# Altium footprint library PcbLib1.PcbLib: 5 footprints
Each footprint in its own frame and in the unit in brackets; x right, y up, seen from the top. Pads: shape width x height; smd on the part's side, far side on the other; paste and mask are expansions set on the pad; w line width, h text height; cw(c..) or ccw(c..) is an arc to the next point about the centre after c.
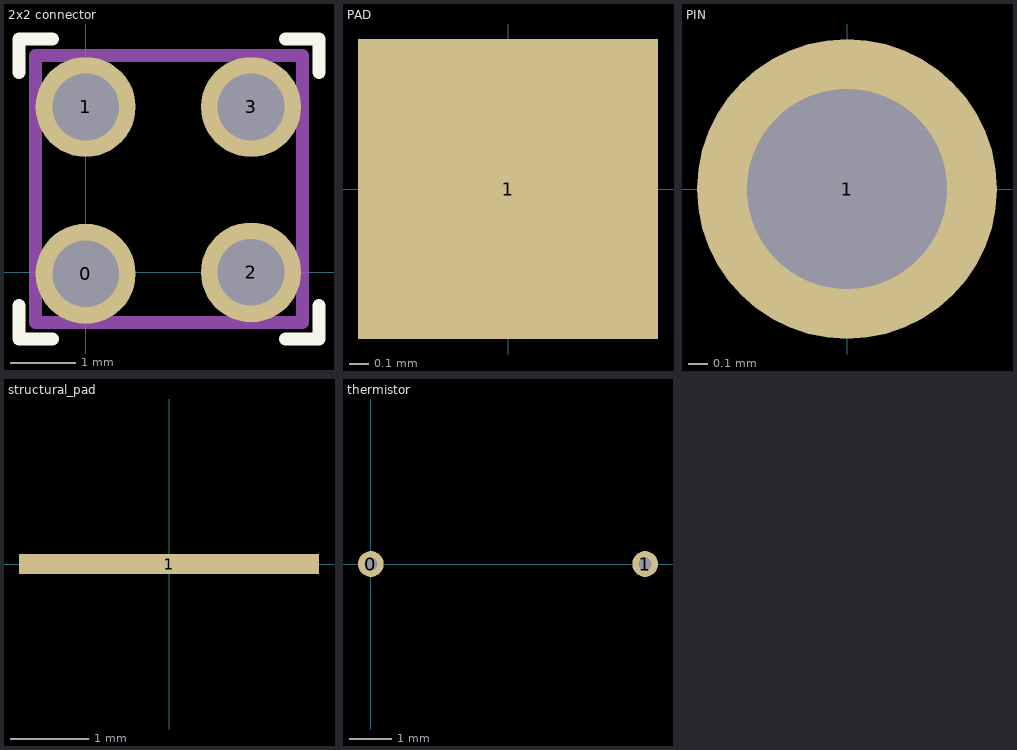
[diagram p0: the footprints below, top view; thin cyan lines are the x and y axes]

## 2x2 connector [mil] "2x2 connector"
pads (4):
  round 60 hole 40: 0(0,-0.89) 1(0,99.21) 2(99.21,0) 3(99.21,99.21)
Top Overlay:
  lines w7.87: -40,-20 -40,-40 -20,-40 ; -40,120 -40,140 -20,140 ; 120,-40 140,-40 140,-20 ; 120,140 140,140 140,120
Mechanical 13:
  lines w7.87: -30,-30 130,-30 130,130 -30,130 -30,-30

## PAD [mil]
pads (1):
  rect 60x60 smd: 1(0,0)

## PIN [mil]
pads (1):
  round 60 hole 40: 1(0,0)

## structural_pad [mil]
pads (1):
  rect 150x10 smd mask+4: 1(0,0)

## thermistor [mil]
pads (2):
  round 24 hole 12: 0(0,0) 1(255.91,0)